# Altium footprint library PCB_Diodes.PcbLib: 4 footprints
Each footprint in its own frame and in the unit in brackets; x right, y up, seen from the top. Pads: shape width x height; smd on the part's side, far side on the other; paste and mask are expansions set on the pad; w line width, h text height; cw(c..) or ccw(c..) is an arc to the next point about the centre after c.
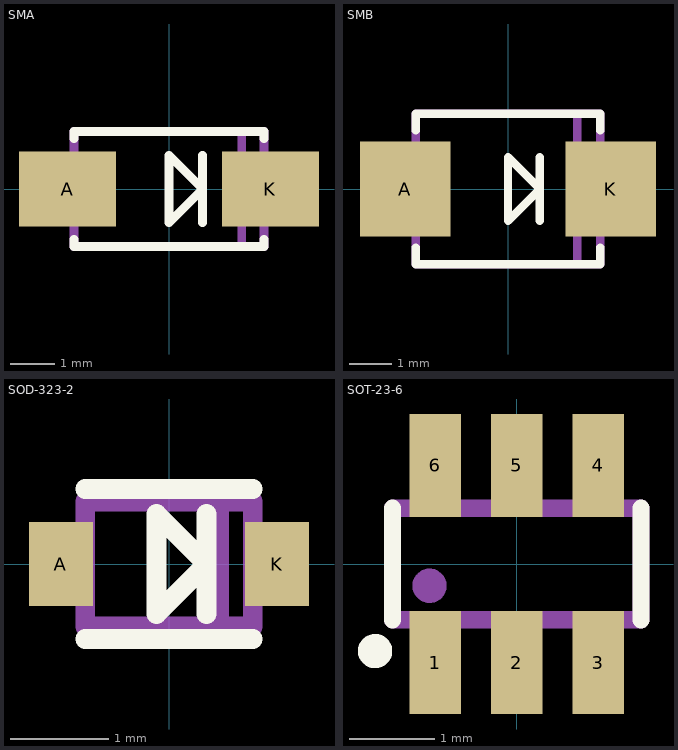
[diagram p0: the footprints below, top view; thin cyan lines are the x and y axes]

## SMA [mm]
pads (2):
  rect 2.2x1.7 smd: A(-2.3,0) K(2.3,0)
Top Overlay:
  lines w0.2: -2.15,-1.143 -2.15,-1.3 2.15,-1.3 2.15,-1.143 ; -2.15,1.143 -2.15,1.3 2.15,1.3 2.15,1.143 ; 0.762,-0.762 0.762,0.762 ; 0,-0.762 0,0.762 0.762,0 0,-0.762
Top Assembly:
  rectangle: -2.617,-0.7 -2.17,0.7
  region: 2.617,0.7 2.17,0.7 2.17,-0.7 2.617,-0.7
  lines w0.2: 1.651,-1.3 1.651,1.3 ; -2.15,-1.3 2.15,-1.3 2.15,1.3 -2.15,1.3 -2.15,-1.3
  text ".Designator" at -3.88,-0.233 h0.7
3D body "SMA.STEP": height 2.63, standoff 0.01, extent -2.57,-1.28 2.57,1.28

## SMB [mm]
pads (2):
  rect 2.16x2.26 smd: A(-2.45,0) K(2.45,0)
Top Overlay:
  lines w0.2: -2.2,-1.397 -2.2,-1.8 2.2,-1.8 2.2,-1.397 ; -2.2,1.397 -2.2,1.8 2.2,1.8 2.2,1.397 ; 0.762,-0.762 0.762,0.762 ; 0,-0.762 0.762,0 0,0.762 0,-0.762
Top Assembly:
  rectangle: 2.22,-1 2.667,1
  rectangle: -2.667,-1 -2.22,1
  lines w0.2: 1.651,-1.8 1.651,1.8 ; -2.2,-1.8 -2.2,1.8 2.2,1.8 2.2,-1.8 -2.2,-1.8
  text ".Designator" at -3.88,-0.233 h0.7
3D body "SMB.STEP": height 2.66, standoff 0.01, extent -2.675,-1.813 2.675,1.813

## SOD-323-2 [mm]
pads (2):
  rect 0.65x0.85 smd: A(-1.1,0) K(1.1,0)
Top Overlay:
  lines w0.2: -0.85,-0.762 0.85,-0.762 ; -0.85,0.762 0.85,0.762 ; 0.381,-0.508 0.381,0.508 ; -0.127,-0.508 -0.127,0.508 0.381,0 -0.127,-0.508
Top Assembly:
  rectangle: -1.27,-0.16 -0.889,0.16
  region: 1.27,0.16 0.889,0.16 0.889,-0.16 1.27,-0.16
  lines w0.2: 0.508,-0.635 0.508,0.635 ; -0.85,-0.635 -0.85,0.635 0.85,0.635 0.85,-0.635 -0.85,-0.635
  text ".Designator" at -3.753,-0.233 h0.7
3D body "SOD-323-2.STEP": height 1.11, standoff 0.01, extent -1.25,-0.625 1.25,0.625

## SOT-23-6 [mm]
pads (6):
  rect 0.6x1.2 smd: 1(-0.95,-1.15) 2(0,-1.15) 3(0.95,-1.15) 4(0.95,1.15) 5(0,1.15) 6(-0.95,1.15)
Top Overlay:
  circle w0.2: c-1.651,-1.016 r0.1
  lines w0.2: -1.45,-0.65 -1.45,0.65 ; 1.45,-0.65 1.45,0.65
Top Assembly:
  circle w0.2: c-1.016,-0.254 r0.1
  rectangle: -0.254,0.65 0.254,1.397
  rectangle: -1.204,0.65 -0.696,1.397
  rectangle: 0.696,0.65 1.204,1.397
  rectangle: -0.254,-1.397 0.254,-0.65
  rectangle: -1.204,-1.397 -0.696,-0.65
  rectangle: 0.696,-1.397 1.204,-0.65
  lines w0.2: -1.45,-0.65 -1.45,0.65 1.45,0.65 1.45,-0.65 -1.45,-0.65
  text ".Designator" at -3.245,-0.233 h0.7
3D body "SOT-23-6.STEP": height 1.45, standoff 0, extent -1.45,-1.4 1.45,1.4